# Altium footprint library Seeed-Resistor.PCBLIB: 11 footprints
Each footprint in its own frame and in the unit in brackets; x right, y up, seen from the top. Pads: shape width x height; smd on the part's side, far side on the other; paste and mask are expansions set on the pad; w line width, h text height; cw(c..) or ccw(c..) is an arc to the next point about the centre after c.
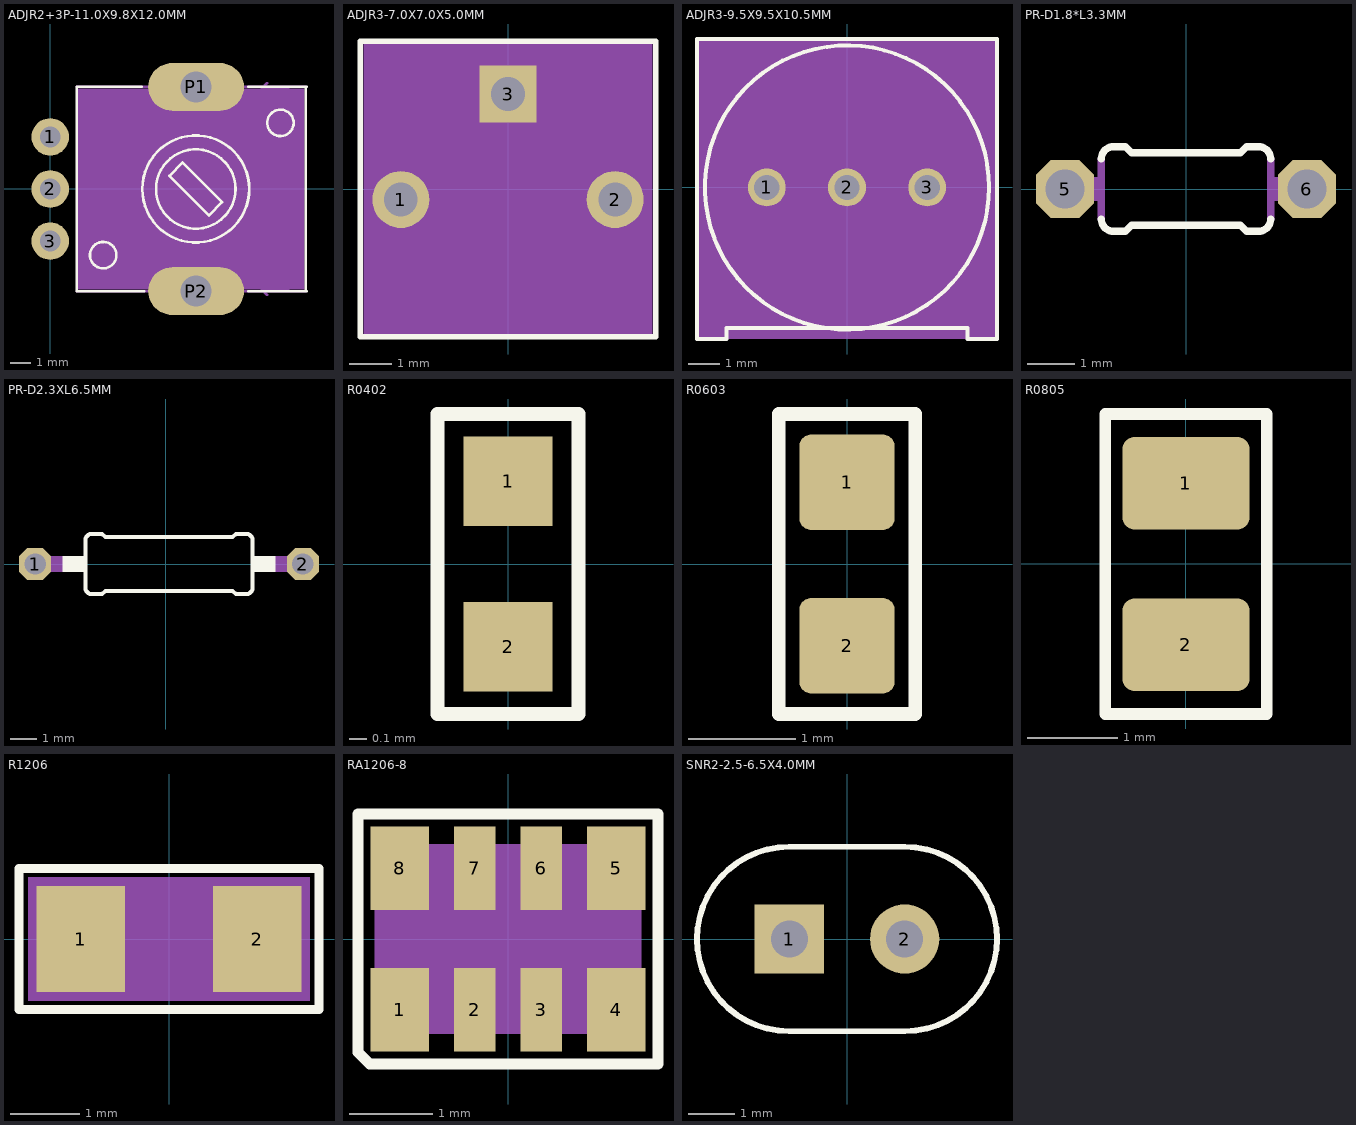
[diagram p0: the footprints below, top view; thin cyan lines are the x and y axes]

## ADJR2+3P-11.0X9.8X12.0MM [mm]
pads (5):
  round 1.8 hole 1: 1(0,2.5) 2(0,0) 3(0,-2.5)
  oval 4.6x2.3 hole 1.5: P1(7,4.9) P2(7,-4.9)
Top Overlay:
  circle w0.127: c6.985,0 r1.905
  circle w0.127: c6.985,0 r2.568
  circle w0.127: c11.049,3.175 r0.635
  circle w0.127: c2.54,-3.175 r0.635
  lines w0.127: 1.27,-4.9 1.27,4.9 ; 1.3,-4.9 4.5,-4.9 ; 1.3,4.9 4.4,4.9 ; 9.5,-4.9 12.3,-4.9 ; 9.5,4.9 12.3,4.9 ; 12.27,-4.9 12.27,4.9 ; 5.715,0.635 7.62,-1.27 8.255,-0.635 6.35,1.27 5.715,0.635
Mechanical 11:
  lines w0.127: 10.414,-5.08 10.16,-4.826 ; 10.414,-4.572 10.16,-4.826 ; 10.414,4.572 10.16,4.826 ; 10.414,5.08 10.16,4.826 ; 10.16,-4.826 11.43,-4.826 11.43,4.826 10.16,4.826
  lines w1.5: 5.9,-4.9 8.1,-4.9 ; 5.9,4.9 8.1,4.9
  text "drill solts must be covered with copper" at 12.7,-14.605 h1.38
Mechanical 16:
  lines w0.127: 1.27,-4.9 12.27,-4.9 ; 1.27,4.9 12.27,4.9
Mechanical 27:
  rectangle: 1.27,-4.826 12.192,4.826

## ADJR3-7.0X7.0X5.0MM [mm]
pads (3):
  round 1.35 hole 0.8: 1(-2.54,-0.25) 2(2.54,-0.25)
  rect 1.35x1.35 hole 0.8: 3(0,2.25)
Top Overlay:
  lines w0.127: -3.5,-3.5 3.5,-3.5 3.5,3.5 -3.5,3.5 -3.5,-3.5
Mechanical 27:
  rectangle: -3.429,-3.556 3.429,3.556

## ADJR3-9.5X9.5X10.5MM [mil]
pads (3):
  round 47.25 hole 31.5: 1(-100,0) 2(0,0) 3(100,0)
Top Overlay:
  circle w5: c0,0 r177.17
  lines w5: -187.01,-188.98 -187.01,185.04 187.01,185.04 187.01,-188.98 150,-188.98 150,-175 -150,-175 -150,-188.98 -187.01,-188.98
Mechanical 27:
  rectangle: -187.01,-188.98 187.01,185.04

## PR-D1.8*L3.3MM [mil]
pads (2):
  oct 48x48 hole 32: 5(-100,0) 6(100,0)
Top Overlay:
  lines w6: -70,-25 ccw(c-60,-25) -60,-35 -50,-35 -45,-30 45,-30 50,-35 60,-35 ccw(c60,-25) 70,-25 ; -70,25 cw(c-60,25) -60,35 -50,35 -45,30 45,30 50,35 60,35 cw(c60,25) 70,25
Mechanical 16:
  rectangle: 70,-10 80,10
  rectangle: -80,-10 -70,10
  lines w6: -70,-25 -70,25 ; 70,-25 70,25
  lines w20: -100,0 -80,0 ; 80,0 100,0

## PR-D2.3XL6.5MM [mil]
pads (2):
  oct 48x48 hole 32: 1(-195,0) 2(205,0)
Top Overlay:
  rectangle: 130,-12 164,12
  rectangle: -154,-12 -120,12
  lines w6: -120,-35 ccw(c-110,-35) -110,-45 -95,-45 -90,-40 100,-40 105,-45 120,-45 ccw(c120,-35) 130,-35 130,35 ccw(c120,35) 120,45 105,45 100,40 -90,40 -95,45 -110,45 ccw(c-110,35) -120,35 -120,-35
Mechanical 16:
  lines w24: -195,0 -155,0 ; 165,0 205,0

## R0402 [mil]
pads (2):
  rect 19.69x19.69 smd: 1(0,18.21) 2(0,-18.21)
Top Overlay:
  lines w3: -15.53,-33.03 15.53,-33.03 15.53,33.03 -15.53,33.03 -15.53,-33.03
3D body "rnd_1550402wgf470ktce.stp": height 19.68, standoff 0, extent -6.78,-19.68 7,19.68

## R0603 [mil]
pads (2):
  rrect25% 35x35 smd: 1(0,30) 2(0,-30)
Top Overlay:
  lines w5: -25,-55 25,-55 25,55 -25,55 -25,-55

## R0805 [mil]
pads (2):
  rrect25% 55x40 smd: 1(0,35) 2(0,-35)
Top Overlay:
  lines w5: -35,-65 -35,65 35,65 35,-65 -35,-65

## R1206 [mil]
pads (2):
  rect 50x60 smd: 1(-50,0) 2(50,0)
Top Overlay:
  lines w5: -85,-40 85,-40 85,40 -85,40 -85,-40
Mechanical 27:
  rectangle: -80,-35 80,35

## RA1206-8 [mm]
pads (8):
  rect 0.7x1 smd: 1(-1.3,-0.85) 4(1.3,-0.85) 5(1.3,0.85) 8(-1.3,0.85)
  rect 0.5x1 smd: 2(-0.4,-0.85) 3(0.4,-0.85) 6(0.4,0.85) 7(-0.4,0.85)
Top Overlay:
  lines w0.127: -1.8,-1.359 -1.659,-1.5 1.8,-1.5 1.8,1.5 -1.8,1.5 -1.8,-1.359
Mechanical 16:
  lines w0.102: -1.55,-0.75 -1.55,0.75 -1,0.75 ccw(c-0.8,0.75) -0.6,0.75 -0.2,0.75 ccw(c0,0.75) 0.2,0.75 0.6,0.75 ccw(c0.8,0.75) 1,0.75 1.55,0.75 1.55,-0.75 1,-0.75 ccw(c0.8,-0.75) 0.6,-0.75 0.2,-0.75 ccw(c0,-0.75) -0.2,-0.75 -0.6,-0.75 ccw(c-0.8,-0.75) -1,-0.75 -1.55,-0.75
Mechanical 27:
  rectangle: -1.587,-1.143 1.587,1.143

## SNR2-2.5-6.5X4.0MM [mil]
pads (2):
  rect 59.06x59.06 hole 31.5: 1(-49.21,0)
  round 59.06 hole 31.5: 2(49.21,0)
Top Overlay:
  lines w5: -127.95,0 ccw(c-49.21,0) -49.21,-78.74 49.21,-78.74 ccw(c49.21,0) 127.95,0 ccw(c49.21,0) 49.21,78.74 -49.21,78.74 ccw(c-49.21,0) -127.95,0